# Altium schematic symbol library 12-Com_lib.SchLib: 12 symbols
Pins are listed as number, name and electrical type; pins without a type are passive.

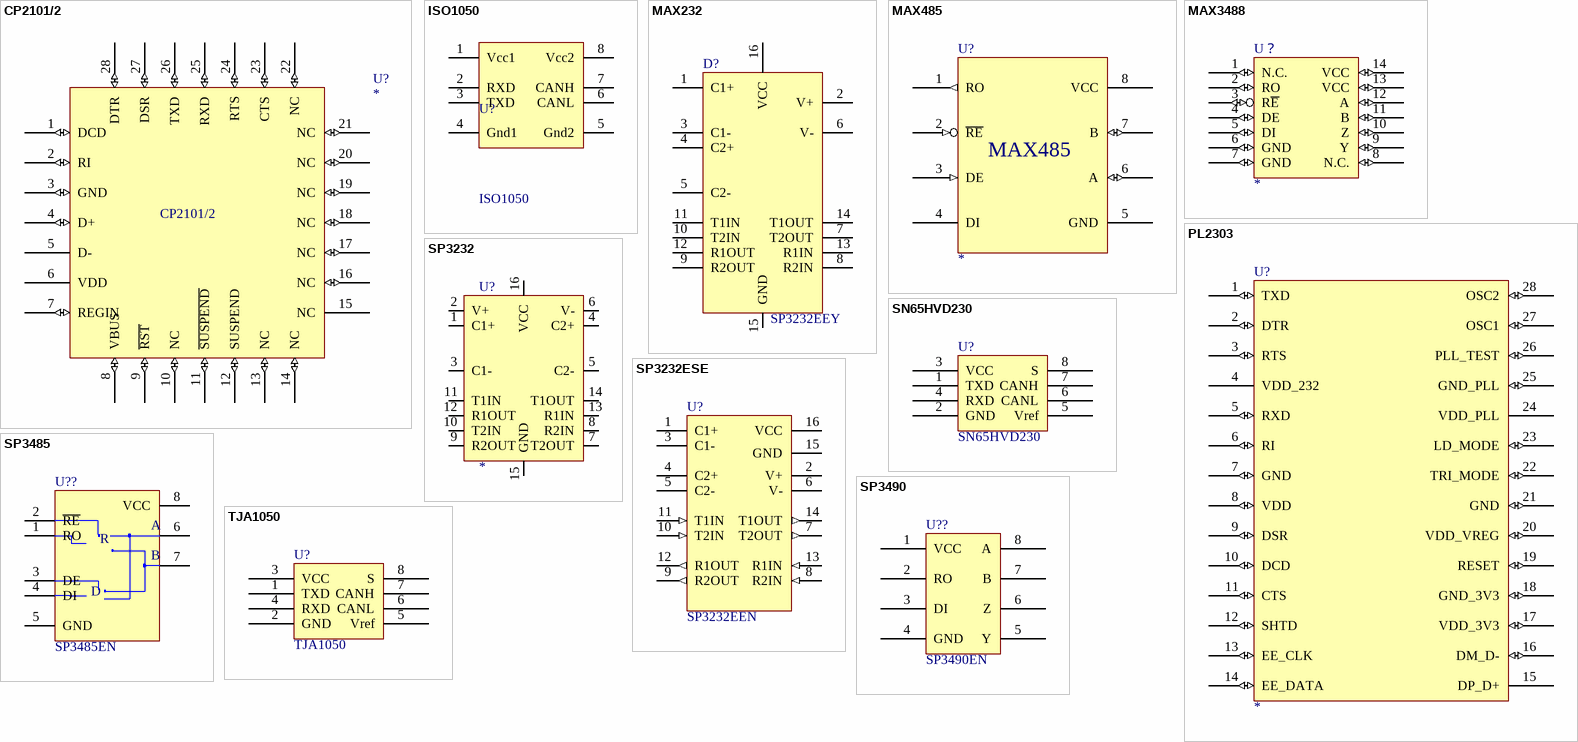
[diagram p0: symbols CP2101/2 to TJA1050]

## CP2101/2
designator U?
USB转TTL-232驱动器
footprint QFN-28
pins: 1 DCD (io), 2 RI (io), 3 GND (io), 4 D+ (io), 5 D- (power), 6 VDD (power), 7 REGIN (io), 8 VBUS (io), 9 ~{RST} (io), 10 NC (io), 11 ~{SUSPEND} (io), 12 SUSPEND (io), 13 NC (io), 14 NC (io), 15 NC (power), 16 NC (io), 17 NC (io), 18 NC (io), 19 NC (io), 20 NC (io), 21 NC (io), 22 NC (io), 23 CTS (io), 24 RTS (io), 25 RXD (io), 26 TXD (io), 27 DSR (io), 28 DTR (io)

## ISO1050
designator U?
隔离式CAN收发器
footprint SOP8
footprint SOP8_2_54
pins: 1 Vcc1, 2 RXD, 3 TXD, 4 Gnd1, 5 Gnd2, 6 CANL, 7 CANH, 8 Vcc2

## MAX232
designator D?, comment SP3232EEY
footprint TSSOP16
pins: 1 C1+, 2 V+, 3 C1-, 4 C2+, 5 C2-, 6 V-, 7 T2OUT, 8 R2IN, 9 R2OUT, 10 T2IN, 11 T1IN, 12 R1OUT, 13 R1IN, 14 T1OUT, 15 GND, 16 VCC

## MAX485
designator U?
footprint DIP8
pins: 1 RO (out), 2 ~{RE} (in), 3 DE (in), 4 DI, 5 GND (power), 6 A (io), 7 B (io), 8 VCC (power)

## MAX3488
designator U？
pins: 1 N.C. (io), 2 RO (io), 3 R~{E} (io), 4 DE (io), 5 DI (io), 6 GND (io), 7 GND (io), 8 N.C. (io), 9 Y (io), 10 Z (io), 11 B (io), 12 A (io), 13 VCC (io), 14 VCC (io)

## PL2303
designator U?
USB转TTL-232驱动器
footprint TSOP28
pins: 1 TXD (io), 2 DTR (io), 3 RTS (io), 4 VDD_232 (power), 5 RXD (io), 6 RI (io), 7 GND (io), 8 VDD (io), 9 DSR (io), 10 DCD (io), 11 CTS (io), 12 SHTD (io), 13 EE_CLK (io), 14 EE_DATA (io), 15 DP_D+ (power), 16 DM_D- (io), 17 VDD_3V3 (io), 18 GND_3V3 (io), 19 RESET (io), 20 VDD_VREG (io), 21 GND (io), 22 TRI_MODE (io), 23 LD_MODE (io), 24 VDD_PLL (power), 25 GND_PLL (io), 26 PLL_TEST (io), 27 OSC1 (io), 28 OSC2 (io)

## SN65HVD230
designator U?
CAN收发器
footprint SO-8
pins: 1 TXD, 2 GND, 3 VCC, 4 RXD, 5 Vref, 6 CANL, 7 CANH, 8 S

## SP3232
designator U?
RS-232线路驱动器
footprint SO-16
pins: 1 C1+, 2 V+, 3 C1-, 4 C2+, 5 C2-, 6 V-, 7 T2OUT, 8 R2IN, 9 R2OUT, 10 T2IN, 11 T1IN, 12 R1OUT, 13 R1IN, 14 T1OUT, 15 GND, 16 VCC

## SP3232ESE
designator U?, comment SP3232EEN
+5V Powered, Multi-Channel RS-232 Driver/Receiver; Package Information: Latest Revision: 1997; Code - JEDEC: MS-001-BB; Published: 16-Jan-2001; Revision: 17-Jul-2002: Re-released for DXP Platform.; Package Reference: PE16A; Publisher: Altium Limited
footprint SO-16
pins: 1 C1+, 2 V+ (power), 3 C1-, 4 C2+, 5 C2-, 6 V- (power), 7 T2OUT (out), 8 R2IN (in), 9 R2OUT (out), 10 T2IN (in), 11 T1IN (in), 12 R1OUT (out), 13 R1IN (in), 14 T1OUT (out), 15 GND (power), 16 VCC (power)
2 alternate drawings of the same symbol

## SP3485
designator U??, comment SP3485EN
RS-485线路驱动器; value: SP3485EN
footprint SO-8
pins: 1 RO, 2 ~{RE}, 3 DE, 4 DI, 5 GND (power), 6 A, 7 B, 8 VCC (power)
2 alternate drawings of the same symbol
text: R; D

## SP3490
designator U??, comment SP3490EN
RS-422线路驱动器
footprint SO-8
pins: 1 VCC, 2 RO, 3 DI, 4 GND, 5 Y, 6 Z, 7 B, 8 A
2 alternate drawings of the same symbol

## TJA1050
designator U?
CAN收发器
footprint SO-8
pins: 1 TXD, 2 GND, 3 VCC, 4 RXD, 5 Vref, 6 CANL, 7 CANH, 8 S